# Altium schematic symbol library SW_SLIDE_SPDT_VERT_TH.SchLib: 1 symbol
Pins are listed as number, name and electrical type; pins without a type are passive.

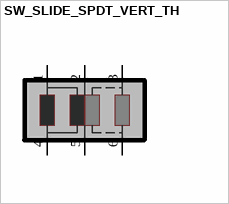
[diagram p0: symbol SW_SLIDE_SPDT_VERT_TH]

## SW_SLIDE_SPDT_VERT_TH
designator S?, comment VERT_SLIDE_SW
SWITCH SLIDE SPDT 300MA 30V; Supplier 1: Digi-Key; Supplier Part Number 1: EG1919-ND
footprint SW_SLIDE_SPDT_VERT_TH
pins: 1, 2, 3, 4, 5, 6